# Altium footprint library K04FC07B.PcbLib: 1 footprints
Each footprint in its own frame and in the unit in brackets; x right, y up, seen from the top. Pads: shape width x height; smd on the part's side, far side on the other; paste and mask are expansions set on the pad; w line width, h text height; cw(c..) or ccw(c..) is an arc to the next point about the centre after c.
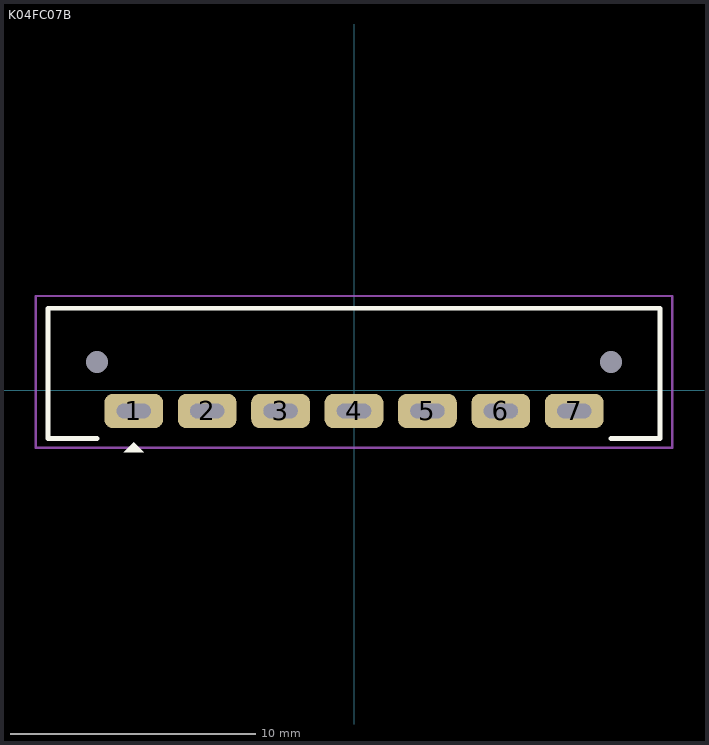
[diagram p0: the footprint, top view; thin cyan lines are the x and y axes]

## K04FC07B [mm]
pads (9):
  round 0 hole 0.9 unplated: 0(-10.5,1.146) 0(10.5,1.146)
  rrect50% 2.4x1.4 hole 0.6 slot 1.4 at 0 deg: 1(-9,-0.846) 2(-6,-0.846) 3(-3,-0.846) 4(0,-0.846) 5(3,-0.846) 6(6,-0.846) 7(9,-0.846)
Top Overlay:
  region: -8.6,-2.525 -9.4,-2.525 -9,-2.125
  lines w0.2: -10.5,-1.974 -12.5,-1.974 -12.5,3.35 12.5,3.35 12.5,-1.974 10.5,-1.974
Top Courtyard:
  lines w0.1: -13,-2.345 -12.5,-2.345 13,-2.345 13,3.85 -13,3.85 -13,-2.345
3D body "DS-K04FC07B-S02A.stp": height 6.55, standoff -2.95, extent -12.486,-1.98 12.514,3.54